# Altium footprint library 14-TSSOP.PcbLib: 1 footprints
Each footprint in its own frame and in the unit in brackets; x right, y up, seen from the top. Pads: shape width x height; smd on the part's side, far side on the other; paste and mask are expansions set on the pad; w line width, h text height; cw(c..) or ccw(c..) is an arc to the next point about the centre after c.
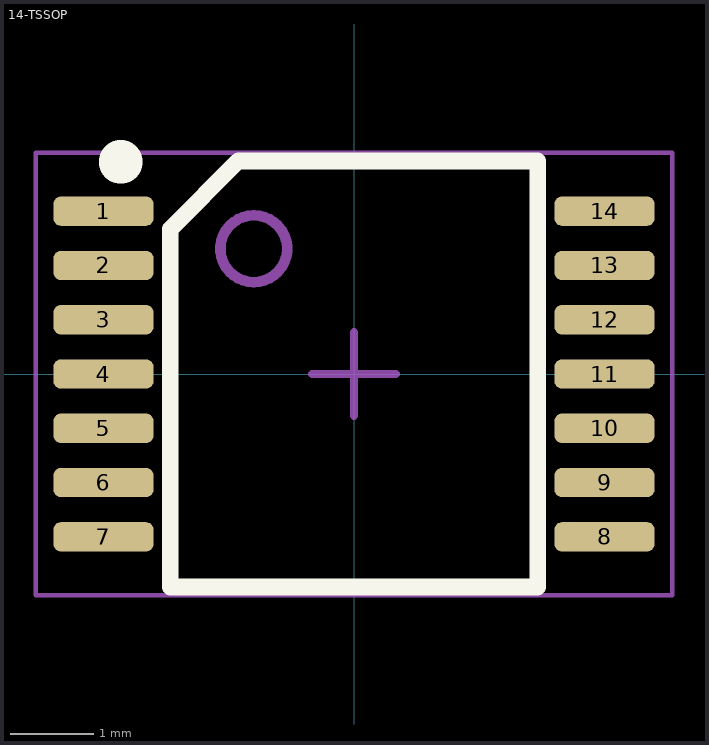
[diagram p0: the footprint, top view; thin cyan lines are the x and y axes]

## 14-TSSOP [mm]
pads (14):
  rrect50% 1.2x0.35 smd mask+0.07: 1(-3,1.95) 2(-3,1.3) 3(-3,0.65) 4(-3,0) 5(-3,-0.65) 6(-3,-1.3) 7(-3,-1.95) 8(3,-1.95) 9(3,-1.3) 10(3,-0.65) 11(3,0) 12(3,0.65) 13(3,1.3) 14(3,1.95)
Top Overlay:
  circle w0.5: c-2.794,2.54 r0.011
  lines w0.2: -2.2,-2.55 -2.2,1.737 -1.387,2.55 2.2,2.55 2.2,-2.55 -2.2,-2.55
Mechanical 13:
  lines w0.127: -1.2,1.1 cw(c-1.2,1.5) -1.2,1.9 cw(c-1.2,1.5) -1.2,1.1
Mechanical 15:
  lines w0.05: -3.81,-2.65 -3.81,2.65 3.81,2.65 3.81,-2.65 -3.81,-2.65
  lines w0.1: -0.5,0 0.5,0 ; 0,-0.5 0,0.5
3D body "PW0014A.stp": height 1.13, standoff 0, extent -3.2,-2.5 3.2,2.5